# Altium schematic symbol library HF105F-1_005D-1HST1_Updated.SCHLIB: 1 symbol
Pins are listed as number, name and electrical type; pins without a type are passive.

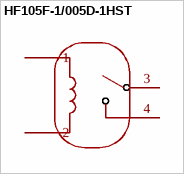
[diagram p0: symbol HF105F-1/005D-1HST]

## HF105F-1/005D-1HST
designator U??  (value not drawn)
Manufacturer: HF(宏发); Add into BOM: yes; Coil Voltage: 5V; Contact Form: 1 Set Normally Open: 1A (SPST NO); Contact Rating: 30A@240VAC；20A@28VDC; Switching Voltage(Max): 277V@AC；28V@DC; Coil Rated Power: 900mW; Switching Current(Max): 40A; Coil Type: Non-Polarized - Single Coil; Coil Resistance: 27Ω; Contact Resistance: 50mΩ; Operate Time: 15ms; Release Time: 10ms; Symbol: HF105F-1/005D-1HST; Device: HF105F-1/005D-1HST; LCSC Part Name: 小型大功率5V继电器 单刀单掷-常开; Supplier Part: C2976768; Manufacturer Part: HF105F-1/005D-1HST; Supplier Footprint: 插件,32.3x27.1mm; JLCPCB Part Class: Extended Part; Datasheet: https://item.szlcsc.com/datasheet/HF105F-1%252F005D-1HST/3384988.html; Supplier: LCSC; Convert to PCB: yes; Number of Pins: 4; Contact Material: AgSnO2; Operating Temperature: -55℃~+85℃
footprint HF105F-1_005D-1HST1_Update
pins: 1, 2, 3, 4